# Altium schematic symbol library ADM809.SchLib: 1 symbol
Pins are listed as number, name and electrical type; pins without a type are passive.

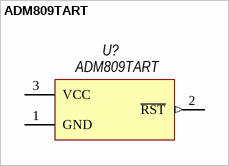
[diagram p0: symbol ADM809TART]

## ADM809TART
designator U?
Supervisory; Manufacturer: Analog Devices; Part: ADM809TART; Package: SOT-23
footprint SOT-23
pins: 1 GND (power), 2 ~{RST} (out), 3 VCC (power)